# EAGLE library part RJ45_CONN (library DougsLab)
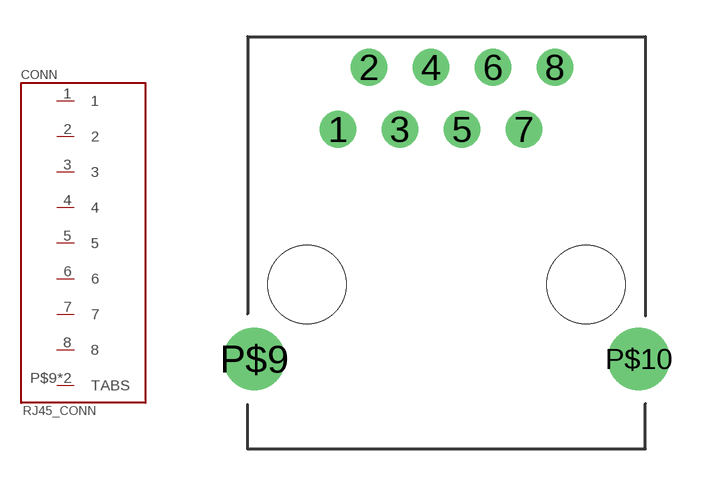
[diagram p7: symbol with the pads of RJ45_VERT; footprint RJ45_VERT]

Designator prefix CONN

## RJ45_CONN  [RJ45_VERT]
1  1
2  2
3  3
4  4
5  5
6  6
7  7
8  8
P$9  TABS
P$10  TABS

## Footprint RJ45_VERT (pad centres in mm)
drill 1: 1 -4.445,6.35; 2 -3.175,8.89; 3 -1.905,6.35; 4 -0.635,8.89; 5 0.635,6.35; 6 1.905,8.89; 7 3.175,6.35; 8 4.445,8.89
drill 1.7 pad 1.93: P$9 -7.875,-3.05; P$10 7.875,-3.05
hole 3.2 at -5.715,0
hole 3.2 at 5.715,0